# EAGLE library part 87368-08 (library untitled)
RECEPTACAL
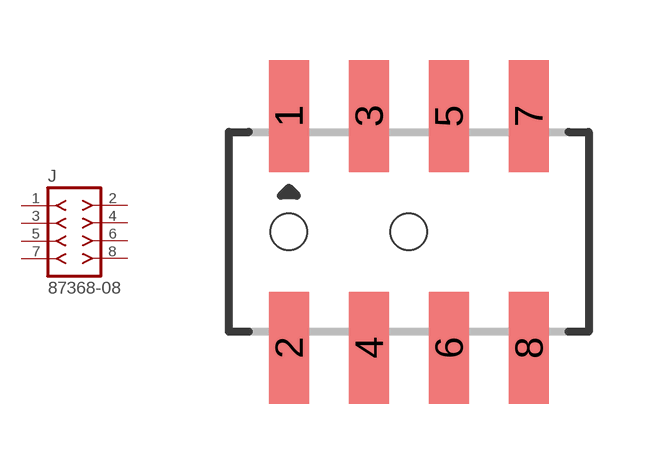
[diagram p183: symbol with the pads of 87368-08; footprint 87368-08]

Designator prefix J

## 87368-08  [87368-08]
1  1  pas
2  2  pas
3  3  pas
4  4  pas
5  5  pas
6  6  pas
7  7  pas
8  8  pas

## Footprint 87368-08 (pad centres in mm)
RECEPTACAL Dual Row, Side Entry
smd 1 x 2.8: 1 -3,2.9; 2 -3,-2.9; 3 -1,2.9; 4 -1,-2.9; 5 1,2.9; 6 1,-2.9; 7 3,2.9; 8 3,-2.9
hole 0.914 at -3,0
hole 0.914 at 0,0